# Altium footprint library octopus_pcb_lib.PcbLib: 13 footprints
Each footprint in its own frame and in the unit in brackets; x right, y up, seen from the top. Pads: shape width x height; smd on the part's side, far side on the other; paste and mask are expansions set on the pad; w line width, h text height; cw(c..) or ccw(c..) is an arc to the next point about the centre after c.
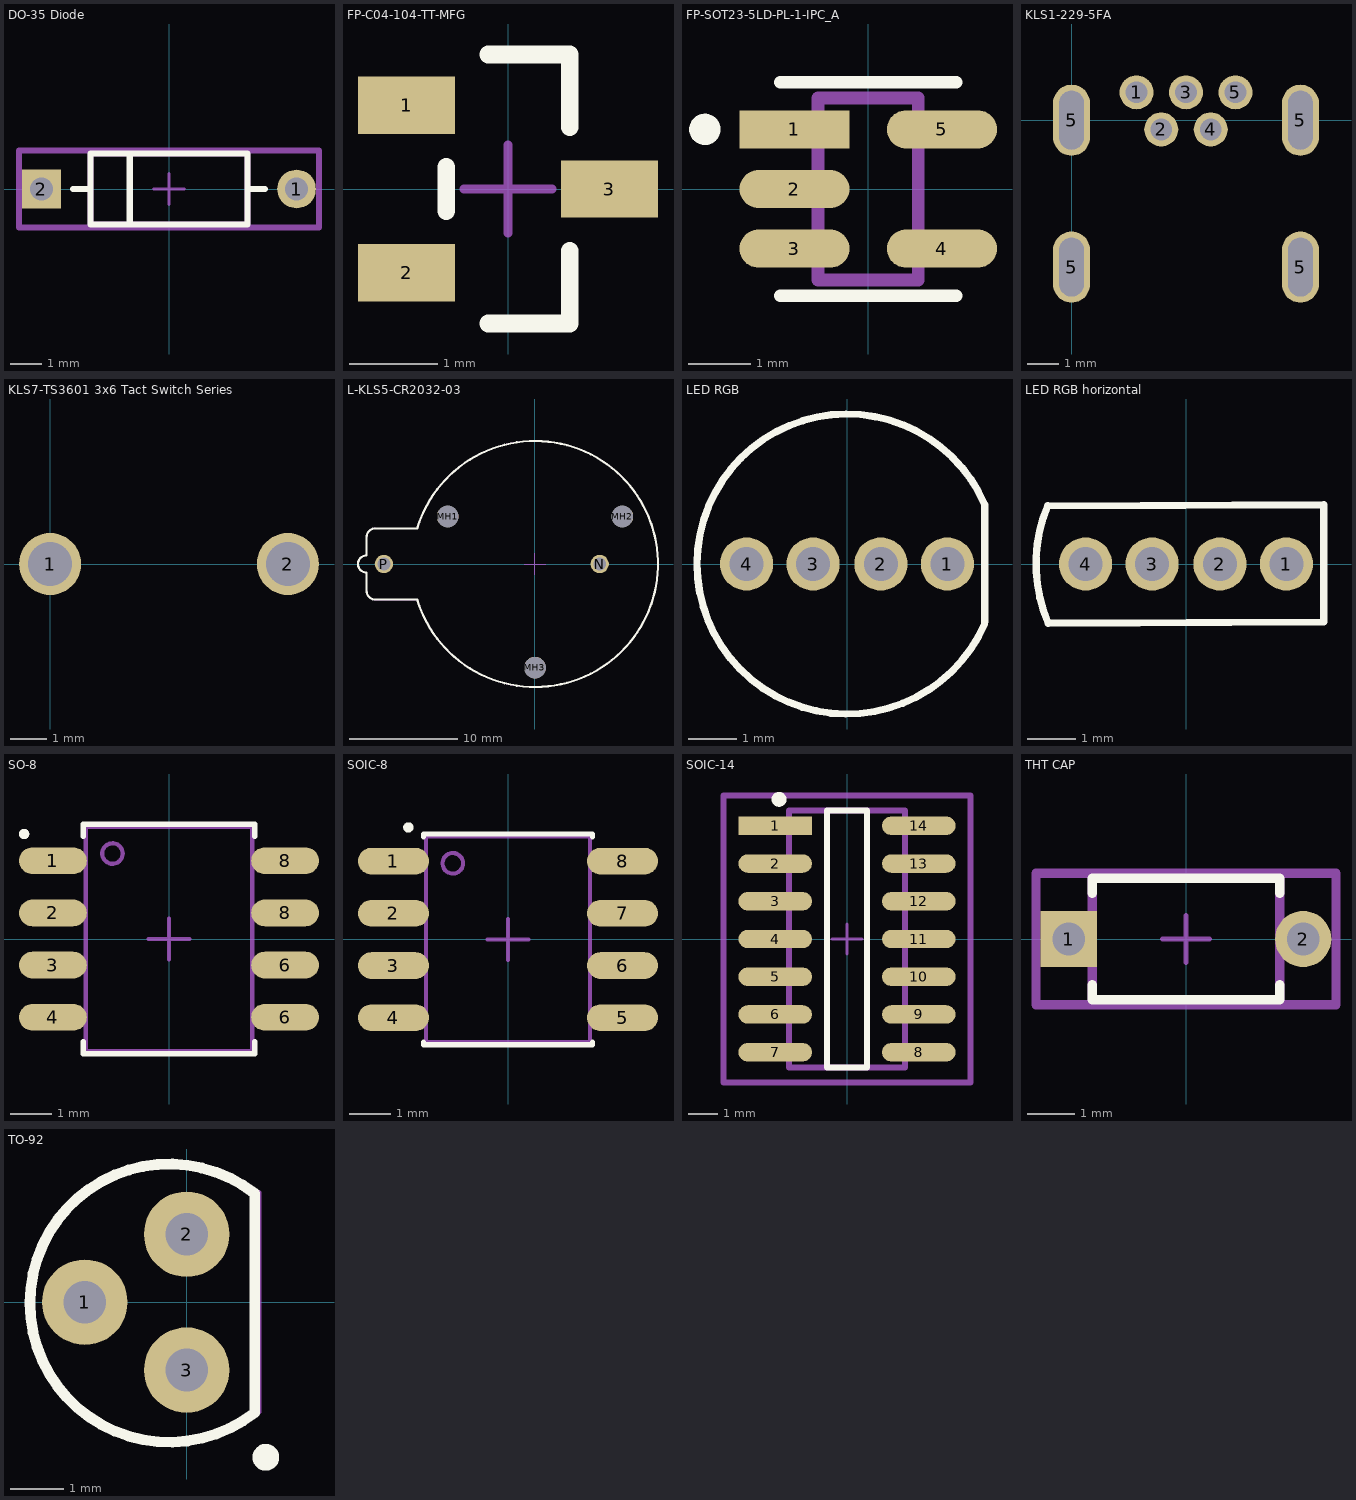
[diagram p0: the footprints below, top view; thin cyan lines are the x and y axes]

## DO-35 Diode [mm]
pads (2):
  round 1.25 hole 0.75 paste-2539.97 mask+0: 1(4.12,0)
  rect 1.25x1.25 hole 0.75 paste-2539.97 mask+0: 2(-4.12,0)
Top Overlay:
  lines w0.2: -3.095,0 -2.54,0 ; -1.27,-1.075 -1.27,1.075 ; 2.54,0 3.095,0 ; -2.54,-1.145 2.54,-1.145 2.54,1.145 -2.54,1.145 -2.54,-1.145
Top Assembly:
  lines w0.2: -4.845,-1.245 4.845,-1.245 4.845,1.245 -4.845,1.245 -4.845,-1.245
Top 3D Body:
  lines w0.2: -2.54,-1.145 2.54,-1.145 2.54,1.145 -2.54,1.145 -2.54,-1.145
Top Courtyard:
  lines w0.2: -4.845,-1.245 4.845,-1.245 4.845,1.245 -4.845,1.245 -4.845,-1.245
Top Component Center:
  lines w0.1: -0.5,0 0.5,0 ; 0,-0.5 0,0.5
3D body "Diode_Microchip_1N753A-1_eec.STEP": height 0.25, standoff 0, extent -4.845,-1.245 4.845,1.245

## FP-C04-104-TT-MFG [mm]
pads (3):
  rect 1.1x0.65 smd paste+0 mask+0: 1(-1.15,0.95) 2(-1.15,-0.95) 3(1.15,0)
Top Overlay:
  lines w0.2: -0.7,-0.25 -0.7,0.25 ; -0.225,-1.525 0.7,-1.525 0.7,-0.7 ; -0.225,1.525 0.7,1.525 0.7,0.7
Top Component Center:
  lines w0.1: -0.5,0 0.5,0 ; 0,-0.5 0,0.5
3D body "IC_Microchip_Technology_MCP9700AT-E-TTVAO_eec.STEP": height 0.25, standoff 0, extent -1.8,-1.752 1.8,1.752

## FP-SOT23-5LD-PL-1-IPC_A [mm]
pads (5):
  rect 1.756x0.61 smd paste+0 mask+0: 1(-1.175,0.95)
  rrect100% 1.756x0.61 smd paste+0 mask+0: 2(-1.175,0) 3(-1.175,-0.95) 4(1.175,-0.95) 5(1.175,0.95)
Top Overlay:
  circle w0.25: c-2.603,0.95 r0.125
  lines w0.2: -1.4,-1.7 1.4,-1.7 ; -1.4,1.7 1.4,1.7
Top 3D Body:
  lines w0.2: -0.8,-1.45 0.8,-1.45 0.8,1.45 -0.8,1.45 -0.8,-1.45
3D body "IC_Microchip_MIC7300YM5-TR_eec.STEP": height 0.25, standoff 0, extent -2.553,-1.95 2.553,1.95

## KLS1-229-5FA [mm] "Mini-USB-B5F PCB Right Angle. DIP Type."
pads (9):
  round 1.1 hole 0.7 mask+0.1: 1(2.1,0.9) 2(2.9,-0.3) 3(3.7,0.9) 4(4.5,-0.3) 5(5.3,0.9)
  oval 1.2x2.3 hole 0.8 slot 1.9 at 90 deg mask+0.1: 5(0,-4.75) 5(0,0) 5(7.4,-4.75) 5(7.4,0)
3D body "USB-Mini-B.SLDPRT": height 3.95, standoff -1.8, extent -0.15,-7.925 7.55,1.075

## KLS7-TS3601 3x6 Tact Switch Series [mm]
pads (2):
  round 1.7 hole 1.2 mask+0.1: 1(0,0) 2(6.5,0)
3D body "KLS7.step": height 4.2, standoff -2.6, extent -0.678,-1.75 7.178,1.75

## L-KLS5-CR2032-03 [mm] "L-KLS5-CR2032-03, Держатель батареи CR2032"
pads (5):
  round 2 hole 2 unplated: MH1(-8.1,4.4) MH2(8.1,4.4) MH3(0,-9.6)
  round 1.7 hole 1.2 mask+0.1: N(6,0)
  round 1.7 hole 1.2: P(-14,0)
Top Overlay:
  lines w0.2: -10.912,-3.3 ccw(c-10.912,-3.3) -10.912,-3.3 ; -10.912,-3.3 ccw(c0,0) -10.912,3.3 ; -10.912,-3.3 -14.8,-3.3 cw(c-14.8,-2.5) -15.6,-2.5 -15.6,-0.8 cw(c-15.6,0) -15.6,0.8 -15.6,2.5 cw(c-14.8,2.5) -14.8,3.3 -10.912,3.3 ; -10.912,3.3 ccw(c-10.912,3.3) -10.912,3.3
Top Component Outline:
  lines w0.1: -10.912,-3.3 ccw(c-10.912,-3.3) -10.912,-3.3 ; -10.912,-3.3 ccw(c0,0) -10.912,3.3 ; -10.912,-3.3 -14.8,-3.3 cw(c-14.8,-2.5) -15.6,-2.5 -15.6,-0.8 cw(c-15.6,0) -15.6,0.8 -15.6,2.5 cw(c-14.8,2.5) -14.8,3.3 -10.912,3.3 ; -10.912,3.3 ccw(c-10.912,3.3) -10.912,3.3
Top 3D Body:
  lines w0.1: -10.912,-3.3 ccw(c-10.912,-3.3) -10.912,-3.3 ; -10.912,-3.3 ccw(c0,0) -10.912,3.3 ; -10.912,-3.3 -14.8,-3.3 cw(c-14.8,-2.5) -15.6,-2.5 -15.6,-0.8 cw(c-15.6,0) -15.6,0.8 -15.6,2.5 cw(c-14.8,2.5) -14.8,3.3 -10.912,3.3 ; -10.912,3.3 ccw(c-10.912,3.3) -10.912,3.3
Top Courtyard:
  lines w0.1: -1,0 1,0 ; 0,-1 0,1
3D body "79528211 (rev1).stp": height 8.5, standoff -3.3, extent -16.4,-11.4 11.4,11.4

## LED RGB [mm] "5mm RGB LED"
pads (4):
  round 1.1 hole 0.7: 1(2.075,0) 2(0.7,0) 3(-0.7,0) 4(-2.075,0)
Top Overlay:
  lines w0.15: 2.844,-1.233 cw(c0,0) 2.848,1.224 ; 2.849,-1.2 2.849,1.2
3D body "LED T-1, dia 5mm, RGB, h2mm.stp": height 8.6, standoff -5, extent -2.925,-2.949 2.521,2.949

## LED RGB horizontal [mm] "5mm RGB LED"
pads (4):
  round 1.1 hole 0.7: 1(2.075,0) 2(0.7,0) 3(-0.7,0) 4(-2.075,0)
Top Overlay:
  lines w0.15: -2.857,1.203 ccw(c0,0) -2.848,-1.224 2.85,-1.2 ; -2.85,1.2 2.848,1.224 ; 2.849,-1.2 2.849,1.2

## SO-8 [mm] "SOP, 8-Leads, Body 5.21x3.95mm, Pitch 1.27mm, IPC Low Density"
height 3.47
pads (8):
  rrect100% 1.65x0.65 smd: 1(-2.825,1.905) 2(-2.825,0.635) 3(-2.825,-0.635) 4(-2.825,-1.905) 6(2.825,-1.905) 6(2.825,-0.635) 8(2.825,0.635) 8(2.825,1.905)
Top Overlay:
  circle w0.125: c-3.525,2.555 r0.062
  lines w0.127: -2.088,-2.494 -2.088,-2.793 2.088,-2.793 2.088,-2.494 ; -2.088,2.494 -2.088,2.793 2.088,2.793 2.088,2.494
Top Assembly:
  circle w0.1: c-1.375,2.08 r0.25
  lines w0.1: -2.025,-2.73 -2.025,2.73 2.025,2.73 2.025,-2.73 -2.025,-2.73
Top Component Center:
  lines w0.1: -0.5,0 0.5,0 ; 0,-0.5 0,0.5
3D body "SOP127P600X347-8_SO8.STEP": height 3.47, standoff 0, extent -3,-2.605 3,2.605

## SOIC-8 [mm] "SOIC, 8-Leads, Body 4.90x3.90mm, Pitch 1.27mm, IPC Low Density"
pads (8):
  rrect100% 1.725x0.65 smd: 1(-2.788,1.905) 2(-2.788,0.635) 3(-2.788,-0.635) 4(-2.788,-1.905) 5(2.788,-1.905) 6(2.788,-0.635) 7(2.788,0.635) 8(2.788,1.905)
Top Overlay:
  circle w0.125: c-2.425,2.725 r0.062
  lines w0.127: -2.057,-2.494 -2.057,-2.565 2.057,-2.565 2.057,-2.494 ; -2.057,2.494 -2.057,2.565 2.057,2.565 2.057,2.494
Top Assembly:
  circle w0.1: c-1.344,1.852 r0.25
  lines w0.1: -1.994,-2.502 -1.994,2.502 1.994,2.502 1.994,-2.502 -1.994,-2.502
Top Component Center:
  lines w0.1: -0.5,0 0.5,0 ; 0,-0.5 0,0.5
3D body "SOIC127P600X173-8_DCG8D1.STEP": height 1.73, standoff 0, extent -3.01,-2.451 3.01,2.451

## SOIC-14 [mm] "ATTINY414-SSNR, Микроконтроллер AVR, 8-Бит, 20МГц, 4КБ Flash, 12 I/O [SOIC-14]"
pads (14):
  rect 2.474x0.622 smd paste+0 mask+0: 1(-2.416,3.81)
  rrect100% 2.474x0.622 smd paste+0 mask+0: 2(-2.416,2.54) 3(-2.416,1.27) 4(-2.416,0) 5(-2.416,-1.27) 6(-2.416,-2.54) 7(-2.416,-3.81) 8(2.416,-3.81) 9(2.416,-2.54) 10(2.416,-1.27) 11(2.416,0) 12(2.416,1.27) 13(2.416,2.54) 14(2.416,3.81)
Top Overlay:
  circle w0.25: c-2.286,4.699 r0.125
  lines w0.2: -0.679,-4.325 0.679,-4.325 0.679,4.325 -0.679,4.325 -0.679,-4.325
Top Assembly:
  lines w0.2: -4.153,-4.825 4.153,-4.825 4.153,4.825 -4.153,4.825 -4.153,-4.825
Top 3D Body:
  lines w0.2: -1.95,-4.325 1.95,-4.325 1.95,4.325 -1.95,4.325 -1.95,-4.325
Top Courtyard:
  lines w0.2: -4.153,-4.825 4.153,-4.825 4.153,4.825 -4.153,4.825 -4.153,-4.825
Top Component Center:
  lines w0.1: -0.5,0 0.5,0 ; 0,-0.5 0,0.5
3D body "IC_Microchip_MCP2517FD-H-SL_eec.STEP": height 0.25, standoff 0, extent -4.153,-4.825 4.153,4.825

## THT CAP [mm]
pads (2):
  rect 1.2x1.2 hole 0.7 paste-2539.97 mask+0: 1(-2.5,0)
  round 1.2 hole 0.7 paste-2539.97 mask+0: 2(2.5,0)
Top Overlay:
  lines w0.2: -2,-0.975 -2,-1.3 2,-1.3 2,-0.975 ; -2,0.975 -2,1.3 2,1.3 2,0.975
Top Assembly:
  lines w0.2: -3.2,-1.4 -3.2,1.4 3.2,1.4 3.2,-1.4 -3.2,-1.4
Top 3D Body:
  lines w0.2: -2,-1.3 -2,1.3 2,1.3 2,-1.3 -2,-1.3
Top Courtyard:
  lines w0.2: -3.2,-1.4 -3.2,1.4 3.2,1.4 3.2,-1.4 -3.2,-1.4
Top Component Center:
  lines w0.1: -0.5,0 0.5,0 ; 0,-0.5 0,0.5
3D body "Cap_Vishay_K104K15X7RF53H5_eec.STEP": height 0.25, standoff 0, extent -3.2,-1.4 3.2,1.4

## TO-92 [mm]
height 5.2
pads (3):
  round 1.6 hole 0.8: 1(-1.905,0) 2(0,1.27) 3(0,-1.27)
Top Overlay:
  circle w0.25: c1.48,-2.9 r0.125
  lines w0.2: 1.27,-2.066 cw(c-0.331,-0.017) 1.27,2.032 1.27,-2.066
Mechanical 1:
  lines w0.1: 1.27,-2.066 cw(c-0.331,-0.017) 1.27,2.032 ; 1.346,-2.049 1.346,2.049
3D body: height 5.2, standoff 0, extent -2.929,-2.627 1.27,2.594